# EAGLE library part GRPB052VWQS-RC (library stm32f4)
CONN HEADER 0.050" 10PS DL SMD AU reviewed: YES tested: YES
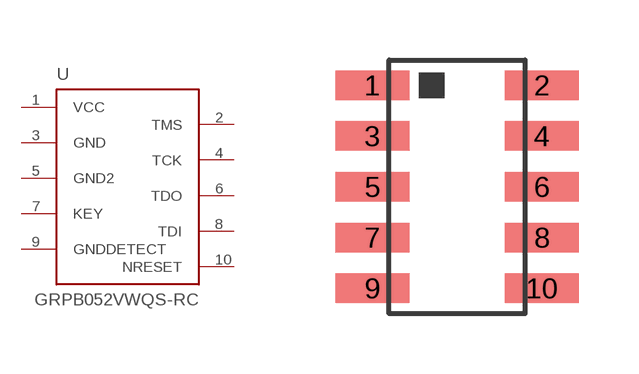
[diagram p0: symbol with the pads of DEBUG; footprint DEBUG]

Designator prefix -

## GRPB052VWQS-RC  [DEBUG]
1  VCC
2  TMS
3  GND
4  TCK
5  GND2
6  TDO
7  KEY
8  TDI
9  GNDDETECT
10  NRESET

## Footprint DEBUG (pad centres in mm)
smd 1.854 x 0.737: 1 -2.121,2.54; 2 2.121,2.54; 3 -2.121,1.27; 4 2.121,1.27; 5 -2.121,0; 6 2.121,0; 7 -2.121,-1.27; 8 2.121,-1.27; 9 -2.121,-2.54; 10 2.121,-2.54